# EAGLE library part KXO-LVDS-VCXO (library crystal-geyer_V2_0)
LVDS-VCXO: KXO-V6x - Serie Model Size l/w/h [mm] Frequency Range Frequency Stability Temp. Range [°C] Load Capacitance AECQ 200 availabel Datasheet KXO-V62 KXO-V63 5.0/3.2/1.2 7.0/5.0/1.7 20,0 - 700,0 20,0 - 700,5 ±25 … ±100ppm ±25 … ±100ppm (*) -40°C …+85°C (*) -40°C …+85°C - - - - KXO-V62.pdf <http://www.geyer-electronic.de/uploads/tx_userartikelfrequenz/GEYER-KXO-V62.pdf> KXO-V63.pdf <http://www.geyer-electronic.de/uploads/tx_userartikelfrequenz/GEYER-KXO-V63.pdf> <http://www.geyer-electronic.de/fileadmin/template/img/logo-geyer-electronic.png> Details see: http://www.geyer-electronic.de/Frequenz-Produkte.9.0.html Created 2016-06-07, Hans Locher 2016 (C) Geyer Quartz Technology KXOV62,KXOV63,5,0x3,2,5.0x3.2,7.0x5.0,7,0x5,0;5032;7050
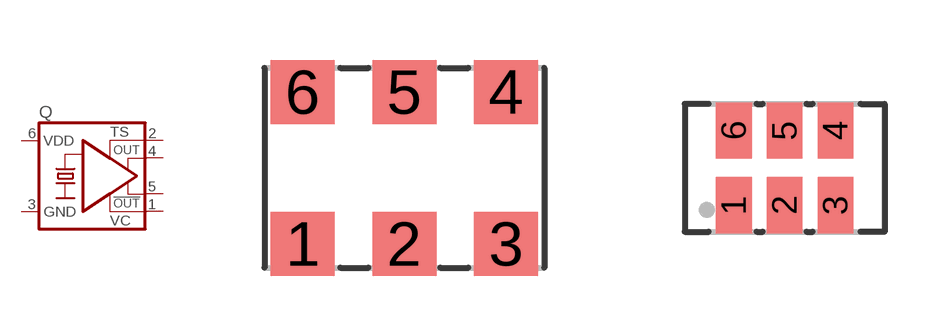
[diagram p0: symbol with the pads of 7.0X5.0-KXO-V63; footprints 7.0X5.0-KXO-V63, 5.0X3.2_KXO-V62]

Designator prefix Q

## KXO-LVDS-VCXO-V63  [7.0X5.0-KXO-V63]
1  VC  in
2  TS  pas
3  GND  pwr
4  OUT  out
5  !OUT  out
6  VDD  pwr

## KXO-LVDS-VCXO-V62  [5.0X3.2_KXO-V62]
Pads as for 7.0X5.0-KXO-V63

## Footprint 7.0X5.0-KXO-V63 (pad centres in mm)
6 Pad
smd 1.6 x 1.6: 1 -2.54,-1.9; 2 0,-1.9; 3 2.54,-1.9; 4 2.54,1.9; 5 0,1.9; 6 -2.54,1.9

## Footprint 5.0X3.2_KXO-V62 (pad centres in mm)
6 Pad
smd 0.89 x 1.41: 1 -1.27,-0.935; 2 0,-0.935; 3 1.27,-0.935; 4 1.27,0.935; 5 0,0.935; 6 -1.27,0.935